# Altium schematic symbol library conectors.SchLib: 1 symbol
Pins are listed as number, name and electrical type; pins without a type are passive.

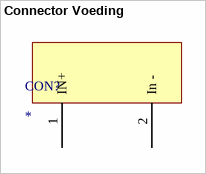
[diagram p0: symbol Connector Voeding]

## Connector Voeding
designator CON?
footprint Conector Voeding
pins: 1 IN+, 2 In -